# EAGLE library part MCP2515 (library X893)
http://ww1.microchip.com/downloads/en/DeviceDoc/21801e.pdf
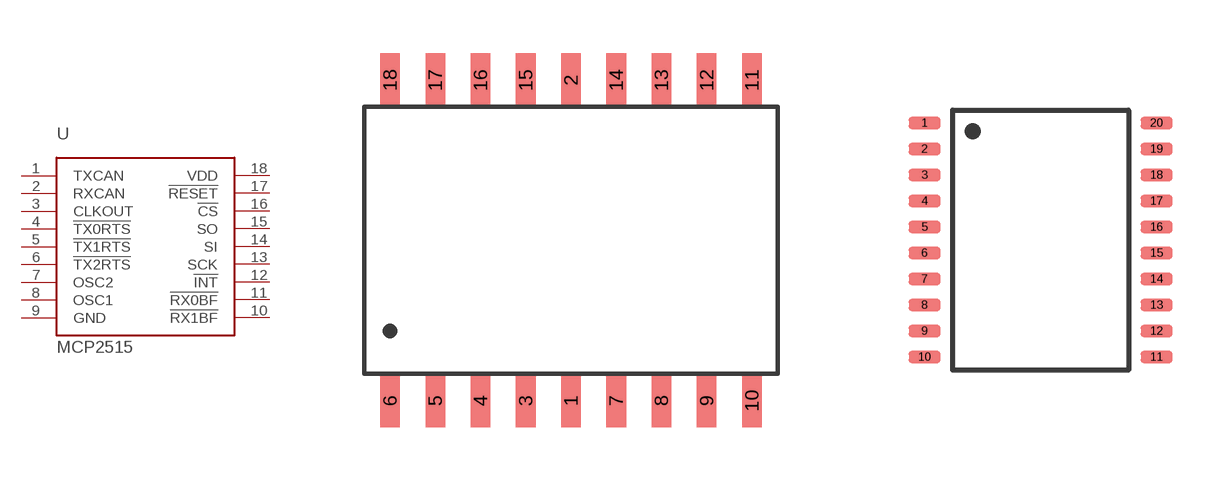
[diagram p72: symbol with the pads of SO20W; footprints SO20W, TSSOP20]

Designator prefix U

## MCP2515-E/SO  [SO20W]
1  TXCAN  pas
2  RXCAN  pas
3  CLKOUT  out
4  !TX0RTS  in
5  !TX1RTS  in
6  !TX2RTS  in
7  OSC2  pas
8  OSC1  pas
9  GND  pwr
10  !RX1BF  out
11  !RX0BF  out
12  !INT  out
13  SCK  in
14  SI  in
15  SO  out
16  !CS  in
17  !RESET  in
18  VDD  pas

## MCP2515-I/ST  [TSSOP20]
1  TXCAN  pas
2  RXCAN  pas
3  CLKOUT  out
4  !TX0RTS  in
5  !TX1RTS  in
7  !TX2RTS  in
8  OSC2  pas
9  OSC1  pas
10  GND  pwr
11  !RX1BF  out
12  !RX0BF  out
13  !INT  out
14  SCK  in
16  SI  in
17  SO  out
18  !CS  in
19  !RESET  in
20  VDD  pas

## Footprint SO20W (pad centres in mm)
smd 0.55 x 1.5: 1 0,-4.5; 2 0,4.5; 3 -1.27,-4.5; 4 -2.54,-4.5; 5 -3.81,-4.5; 6 -5.08,-4.5; 7 1.27,-4.5; 8 2.54,-4.5; 9 3.81,-4.5; 10 5.08,-4.5; 11 5.08,4.5; 12 3.81,4.5; 13 2.54,4.5; 14 1.27,4.5; 15 -1.27,4.5; 16 -2.54,4.5; 17 -3.81,4.5; 18 -5.08,4.5

## Footprint TSSOP20 (pad centres in mm)
smd 0.8 x 0.3: 1 -2.9,2.925; 2 -2.9,2.275; 3 -2.9,1.625; 4 -2.9,0.975; 5 -2.9,0.325; 6 -2.9,-0.325; 7 -2.9,-0.975; 8 -2.9,-1.625; 9 -2.9,-2.275; 10 -2.9,-2.925; 11 2.9,-2.925; 12 2.9,-2.275; 13 2.9,-1.625; 14 2.9,-0.975; 15 2.9,-0.325; 16 2.9,0.325; 17 2.9,0.975; 18 2.9,1.625; 19 2.9,2.275; 20 2.9,2.925